# EAGLE library part ST-MICROELECTRONICS_STM32F103 (library maple-r5-v4)
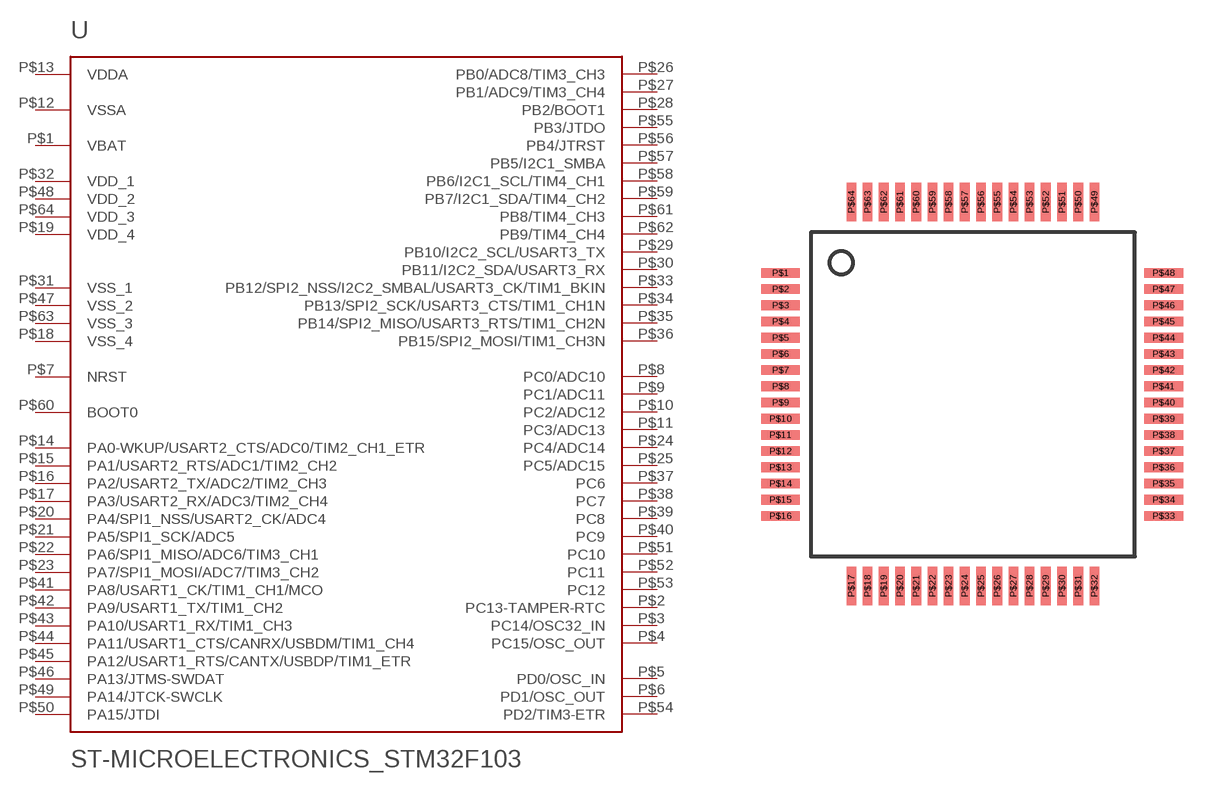
[diagram p0: symbol with the pads of ST-MICROELECTRONICS_TQFP-10X10-64; footprint ST-MICROELECTRONICS_TQFP-10X10-64]

Designator prefix -

## ST-MICROELECTRONICS_STM32F103  [ST-MICROELECTRONICS_TQFP-10X10-64]
P$1  VBAT  pwr
P$2  PC13-TAMPER-RTC
P$3  PC14/OSC32_IN
P$4  PC15/OSC_OUT
P$5  PD0/OSC_IN
P$6  PD1/OSC_OUT
P$7  NRST
P$8  PC0/ADC10
P$9  PC1/ADC11
P$10  PC2/ADC12
P$11  PC3/ADC13
P$12  VSSA  pwr
P$13  VDDA  pwr
P$14  PA0-WKUP/USART2_CTS/ADC0/TIM2_CH1_ETR
P$15  PA1/USART2_RTS/ADC1/TIM2_CH2
P$16  PA2/USART2_TX/ADC2/TIM2_CH3
P$17  PA3/USART2_RX/ADC3/TIM2_CH4
P$18  VSS_4  pwr
P$19  VDD_4  pwr
P$20  PA4/SPI1_NSS/USART2_CK/ADC4
P$21  PA5/SPI1_SCK/ADC5
P$22  PA6/SPI1_MISO/ADC6/TIM3_CH1
P$23  PA7/SPI1_MOSI/ADC7/TIM3_CH2
P$24  PC4/ADC14
P$25  PC5/ADC15
P$26  PB0/ADC8/TIM3_CH3
P$27  PB1/ADC9/TIM3_CH4
P$28  PB2/BOOT1
P$29  PB10/I2C2_SCL/USART3_TX
P$30  PB11/I2C2_SDA/USART3_RX
P$31  VSS_1  pwr
P$32  VDD_1  pwr
P$33  PB12/SPI2_NSS/I2C2_SMBAL/USART3_CK/TIM1_BKIN
P$34  PB13/SPI2_SCK/USART3_CTS/TIM1_CH1N
P$35  PB14/SPI2_MISO/USART3_RTS/TIM1_CH2N
P$36  PB15/SPI2_MOSI/TIM1_CH3N
P$37  PC6
P$38  PC7
P$39  PC8
P$40  PC9
P$41  PA8/USART1_CK/TIM1_CH1/MCO
P$42  PA9/USART1_TX/TIM1_CH2
P$43  PA10/USART1_RX/TIM1_CH3
P$44  PA11/USART1_CTS/CANRX/USBDM/TIM1_CH4
P$45  PA12/USART1_RTS/CANTX/USBDP/TIM1_ETR
P$46  PA13/JTMS-SWDAT
P$47  VSS_2  pwr
P$48  VDD_2  pwr
P$49  PA14/JTCK-SWCLK
P$50  PA15/JTDI
P$51  PC10
P$52  PC11
P$53  PC12
P$54  PD2/TIM3-ETR
P$55  PB3/JTDO
P$56  PB4/JTRST
P$57  PB5/I2C1_SMBA
P$58  PB6/I2C1_SCL/TIM4_CH1
P$59  PB7/I2C1_SDA/TIM4_CH2
P$60  BOOT0
P$61  PB8/TIM4_CH3
P$62  PB9/TIM4_CH4
P$63  VSS_3  pwr
P$64  VDD_3  pwr

## Footprint ST-MICROELECTRONICS_TQFP-10X10-64 (pad centres in mm)
smd 1.2 x 0.3: P$1 -5.936,3.75; P$2 -5.936,3.25; P$3 -5.936,2.75; P$4 -5.936,2.25; P$5 -5.936,1.75; P$6 -5.936,1.25; P$7 -5.936,0.75; P$8 -5.936,0.25; P$9 -5.936,-0.25; P$10 -5.936,-0.75; P$11 -5.936,-1.25; P$12 -5.936,-1.75; P$13 -5.936,-2.25; P$14 -5.936,-2.75; P$15 -5.936,-3.25; P$16 -5.936,-3.75; P$33 5.886,-3.75; P$34 5.886,-3.25; P$35 5.886,-2.75; P$36 5.886,-2.25; P$37 5.886,-1.75; P$38 5.886,-1.25; P$39 5.886,-0.75; P$40 5.886,-0.25; P$41 5.886,0.25; P$42 5.886,0.75; P$43 5.886,1.25; P$44 5.886,1.75; P$45 5.886,2.25; P$46 5.886,2.75; P$47 5.886,3.25; P$48 5.886,3.75
smd 0.3 x 1.2: P$17 -3.75,-5.911; P$18 -3.25,-5.911; P$19 -2.75,-5.911; P$20 -2.25,-5.911; P$21 -1.75,-5.911; P$22 -1.25,-5.911; P$23 -0.75,-5.911; P$24 -0.25,-5.911; P$25 0.25,-5.911; P$26 0.75,-5.911; P$27 1.25,-5.911; P$28 1.75,-5.911; P$29 2.25,-5.911; P$30 2.75,-5.911; P$31 3.25,-5.911; P$32 3.75,-5.911; P$49 3.75,5.936; P$50 3.25,5.936; P$51 2.75,5.936; P$52 2.25,5.936; P$53 1.75,5.936; P$54 1.25,5.936; P$55 0.75,5.936; P$56 0.25,5.936; P$57 -0.25,5.936; P$58 -0.75,5.936; P$59 -1.25,5.936; P$60 -1.75,5.936; P$61 -2.25,5.936; P$62 -2.75,5.936; P$63 -3.25,5.936; P$64 -3.75,5.936